# Altium footprint library ChipWhisperer_AltiumLib.PcbLib: 2 footprints
Each footprint in its own frame and in the unit in brackets; x right, y up, seen from the top. Pads: shape width x height; smd on the part's side, far side on the other; paste and mask are expansions set on the pad; w line width, h text height; cw(c..) or ccw(c..) is an arc to the next point about the centre after c.
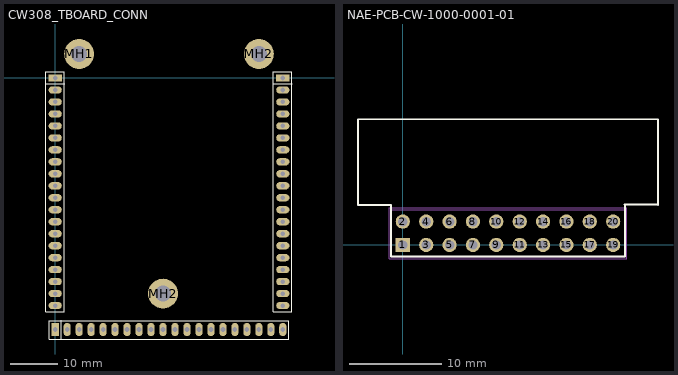
[diagram p0: the footprints below, top view; thin cyan lines are the x and y axes]

## CW308_TBOARD_CONN [mil]
pads (63):
  rect 110x60 hole 39: A1(0,0) C1(1900,0)
  oval 110x60 hole 39: A2(0,-100) A3(0,-200) A4(0,-300) A5(0,-400) A6(0,-500) A7(0,-600) A8(0,-700) A9(0,-800) A10(0,-900) A11(0,-1000) A12(0,-1100) A13(0,-1200) A14(0,-1300) A15(0,-1400) A16(0,-1500) A17(0,-1600) A18(0,-1700) A19(0,-1800) A20(0,-1900) C2(1900,-100) C3(1900,-200) C4(1900,-300) C5(1900,-400) C6(1900,-500) C7(1900,-600) C8(1900,-700) C9(1900,-800) C10(1900,-900) C11(1900,-1000) C12(1900,-1100) C13(1900,-1200) C14(1900,-1300) C15(1900,-1400) C16(1900,-1500) C17(1900,-1600) C18(1900,-1700) C19(1900,-1800) C20(1900,-1900)
  rect 60x110 hole 39: B1(0,-2100)
  oval 60x110 hole 39: B2(100,-2100) B3(200,-2100) B4(300,-2100) B5(400,-2100) B6(500,-2100) B7(600,-2100) B8(700,-2100) B9(800,-2100) B10(900,-2100) B11(1000,-2100) B12(1100,-2100) B13(1200,-2100) B14(1300,-2100) B15(1400,-2100) B16(1500,-2100) B17(1600,-2100) B18(1700,-2100) B19(1800,-2100) B20(1900,-2100)
  round 250 hole 134: MH1(200,200) MH2(900,-1800) MH2(1700,200)
Top Overlay:
  lines w10: -78.74,-50 78.74,-50 ; 50,-2178.74 50,-2021.26 ; 1821.26,-50 1978.74,-50 ; -78.74,-1950 75,-1950 75,50 -78.74,50 -78.74,-1950 ; -50,-2178.74 -50,-2025 1950,-2025 1950,-2178.74 -50,-2178.74 ; 1821.26,-1950 1975,-1950 1975,50 1821.26,50 1821.26,-1950
3D body "HTSW-120-05-G-S.stp": height 43, standoff -292, extent -49.99,-2148.99 1950.01,-2050.99
3D body "HTSW-120-05-G-S.stp": height 43, standoff -292, extent 1851,-1949.99 1949,50.01
3D body "HTSW-120-05-G-S.stp": height 47.88, standoff -287.12, extent -49,-1949.99 49,50.01

## NAE-PCB-CW-1000-0001-01 [mm] "High Temp Terminal Body, 2x10 Pins, R/A, 2.54mm Pitch, Male"
height 9.2
pads (20):
  rect 1.55x1.55 hole 1.02: 1(0,0)
  round 1.55 hole 1.02: 2(0,2.54) 3(2.54,0) 4(2.54,2.54) 5(5.08,0) 6(5.08,2.54) 7(7.62,0) 8(7.62,2.54) 9(10.16,0) 10(10.16,2.54) 11(12.7,0) 12(12.7,2.54) 13(15.24,0) 14(15.24,2.54) 15(17.78,0) 16(17.78,2.54) 17(20.32,0) 18(20.32,2.54) 19(22.86,0) 20(22.86,2.54)
Top Overlay:
  lines w0.2: -1.27,3.81 -1.27,-1.27 24.13,-1.27 24.13,3.81
  lines w0.203: -1.27,3.81 -1.27,4.37 -1.3,4.34 -4.875,4.34 -4.875,13.66 -4.875,13.66 27.735,13.66 ; 24.13,3.81 24.13,4.37 24.1,4.4 27.675,4.4 27.735,4.34 27.735,13.66 ; 27.735,13.66 27.735,13.66
Mechanical 13:
  lines w0.1: -1.27,-1.27 -1.27,3.81 24.13,3.81 24.13,-1.27 -1.27,-1.27
Mechanical 15:
  lines w0.05: -1.495,-1.495 -1.495,4.035 24.355,4.035 24.355,-1.495 -1.495,-1.495
3D body "75867_y04_asm.stp": height 9.27, standoff -3.07, extent -4.875,-0.31 27.735,13.66